# Altium footprint library GP2426SR.PcbLib: 1 footprints
Each footprint in its own frame and in the unit in brackets; x right, y up, seen from the top. Pads: shape width x height; smd on the part's side, far side on the other; paste and mask are expansions set on the pad; w line width, h text height; cw(c..) or ccw(c..) is an arc to the next point about the centre after c.
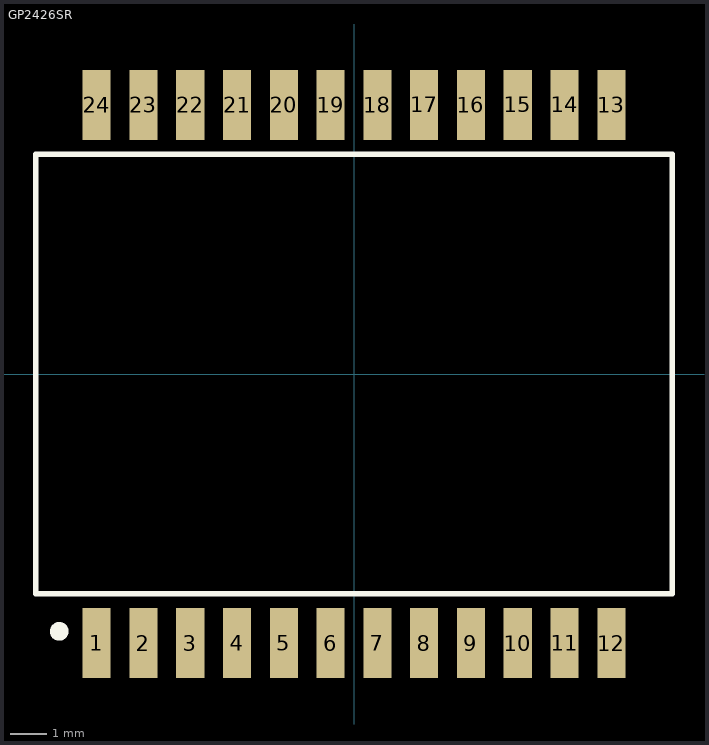
[diagram p0: the footprint, top view; thin cyan lines are the x and y axes]

## GP2426SR [mil]
pads (24):
  rect 30x75 smd: 1(-275,-287.5) 2(-225,-287.5) 3(-175,-287.5) 4(-125,-287.5) 5(-75,-287.5) 6(-25,-287.5) 7(25,-287.5) 8(75,-287.5) 9(125,-287.5) 10(175,-287.5) 11(225,-287.5) 12(275,-287.5) 13(275,287.5) 14(225,287.5) 15(175,287.5) 16(125,287.5) 17(75,287.5) 18(25,287.5) 19(-25,287.5) 20(-75,287.5) 21(-125,287.5) 22(-175,287.5) 23(-225,287.5) 24(-275,287.5)
Top Overlay:
  circle w10: c-315,-275 r5
  lines w5.91: -340,-235 340,-235 340,235 -340,235 -340,-235
3D body: height 230, standoff 0, extent -345,-240 345,240